# EAGLE library part 61201021721 (library Wuerth_Elektronik_eiCan_Box_Header_&_IDC_Connectors_v1.2)
WR-BHD 2.54mm Male Angled Box Header, 10 Pins
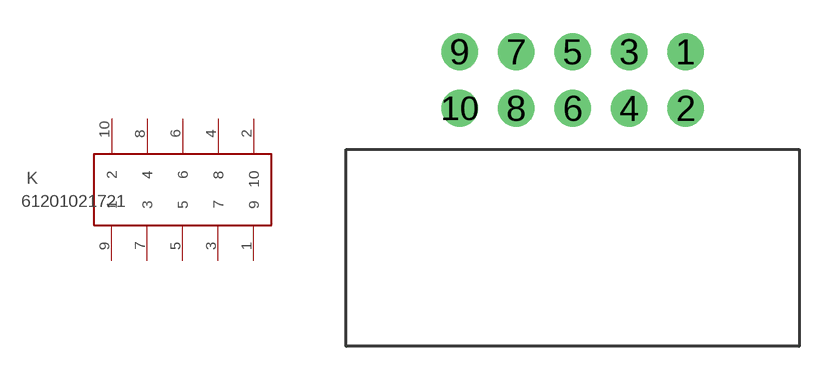
[diagram p91: symbol with the pads of 61201021721; footprint 61201021721]

Designator prefix K

## 61201021721  [61201021721]
1  9  pas
2  10  pas
3  7  pas
4  8  pas
5  5  pas
6  6  pas
7  3  pas
8  4  pas
9  1  pas
10  2  pas

## Footprint 61201021721 (pad centres in mm)
WR-BHD 2.54mm Male Angled Box Header, 10 Pins
drill 1.1 round: 1 2.54,1.27; 2 2.54,-1.27; 3 0,1.27; 4 0,-1.27; 5 -2.54,1.27; 6 -2.54,-1.27; 7 -5.08,1.27; 8 -5.08,-1.27; 9 -7.62,1.27; 10 -7.62,-1.27